# Altium schematic symbol library 640456-5.SchLib: 1 symbol
Pins are listed as number, name and electrical type; pins without a type are passive.

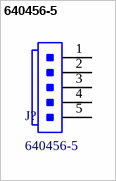
[diagram p0: symbol 640456-5]

## 640456-5
designator J?
CONN HEADER VERT 5POS 2.54MM; MFR: TE Connectivity AMP Connectors; No. of Positions: 5; No. of Rows: 1; PN: 640456-5; ComponentLink1Description: Datasheet; ComponentLink1URL: https://www.te.com/commerce/DocumentDelivery/DDEController?Action=srchrtrv&DocNm=640456&DocType=Customer+Drawing&DocLang=English; Supplier 1: Digi-Key; Supplier Part Number 1: A19471-ND
footprint 640456-5
pins: 1, 2, 3, 4, 5